# Altium schematic symbol library Capacitop_3Pol.SchLib: 1 symbol
Pins are listed as number, name and electrical type; pins without a type are passive.

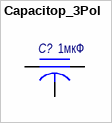
[diagram p0: symbol Capacitop_3Pol]

## Capacitop_3Pol
designator C?, comment value 1мкФ  (hidden comment: NFM15PC105D0J3)
Large Current 3 Terminals Low ESL Chip Multilayer Ceramic Capacitors for General Purpose, 0402, 2200pF, 20%, 10V; Потребление, Вт: 0.0; Назначение: 3 Terminals Low ESL Chip Multilayer Ceramic Capacitors (EMIFIL) for General Purpose; ComponentLink1Description: DataSheet; ComponentLink1URL: https://search.murata.co.jp/Ceramy/image/img/A01X/G101/ENG/NFM15CC222D1A3-01.pdf; Наименование: NFM15PC105D0J3; ComponentLink2Description: UsingMethod; ComponentLink2URL: https://article.murata.com/en-global/article/methods-of-using-low-esl-capacitors
footprint 3pol_SMD0402
footprint 3pol_SMD0603
footprint 3pol_SMD0805
pins: 1 Input, 2 GND, 3 Output